# Altium schematic symbol library BK-870-NDSch.SchLib: 1 symbol
Pins are listed as number, name and electrical type; pins without a type are passive.

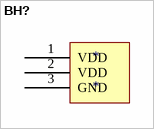
[diagram p0: symbol BH?]

## BH?
designator *
Battery Holder for BK-870
footprint BK-870-ND
footprint BHX1-1025-PC
pins: 1 VDD, 2 VDD, 3 GND